# EAGLE library part TX-AUXOUT_0-SCREEN (library RediSem_New)
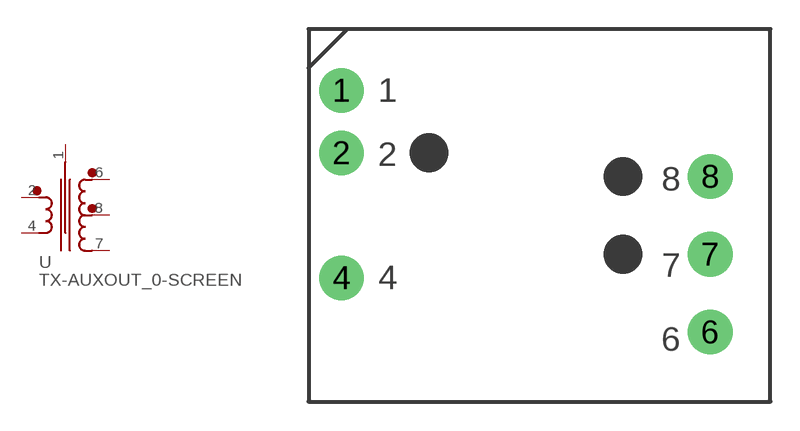
[diagram p5: symbol with the pads of EE19HL-(2+3)P-(2); footprint EE19HL-(2+3)P-(2)]

Designator prefix -

## TX-AUXOUT_0-SCREEN-EE19HL-(2+3)P-(2)  [EE19HL-(2+3)P-(2)]
1  1  pas
2  2  pas
4  3  pas
6  8  pas
7  6  pas
8  7  pas

## Footprint EE19HL-(2+3)P-(2) (pad centres in mm)
drill 1.1 pad 2.3: 1 -9.5,6.44; 2 -9.5,3.22; 4 -9.5,-3.22; 6 9.5,-6.015; 7 9.5,-2.005; 8 9.5,2.005